# Altium schematic symbol library Altium_Box_Header_MP4C.SchLib: 79 symbols (part 1 of 2)
Pins are listed as number, name and electrical type; pins without a type are passive.

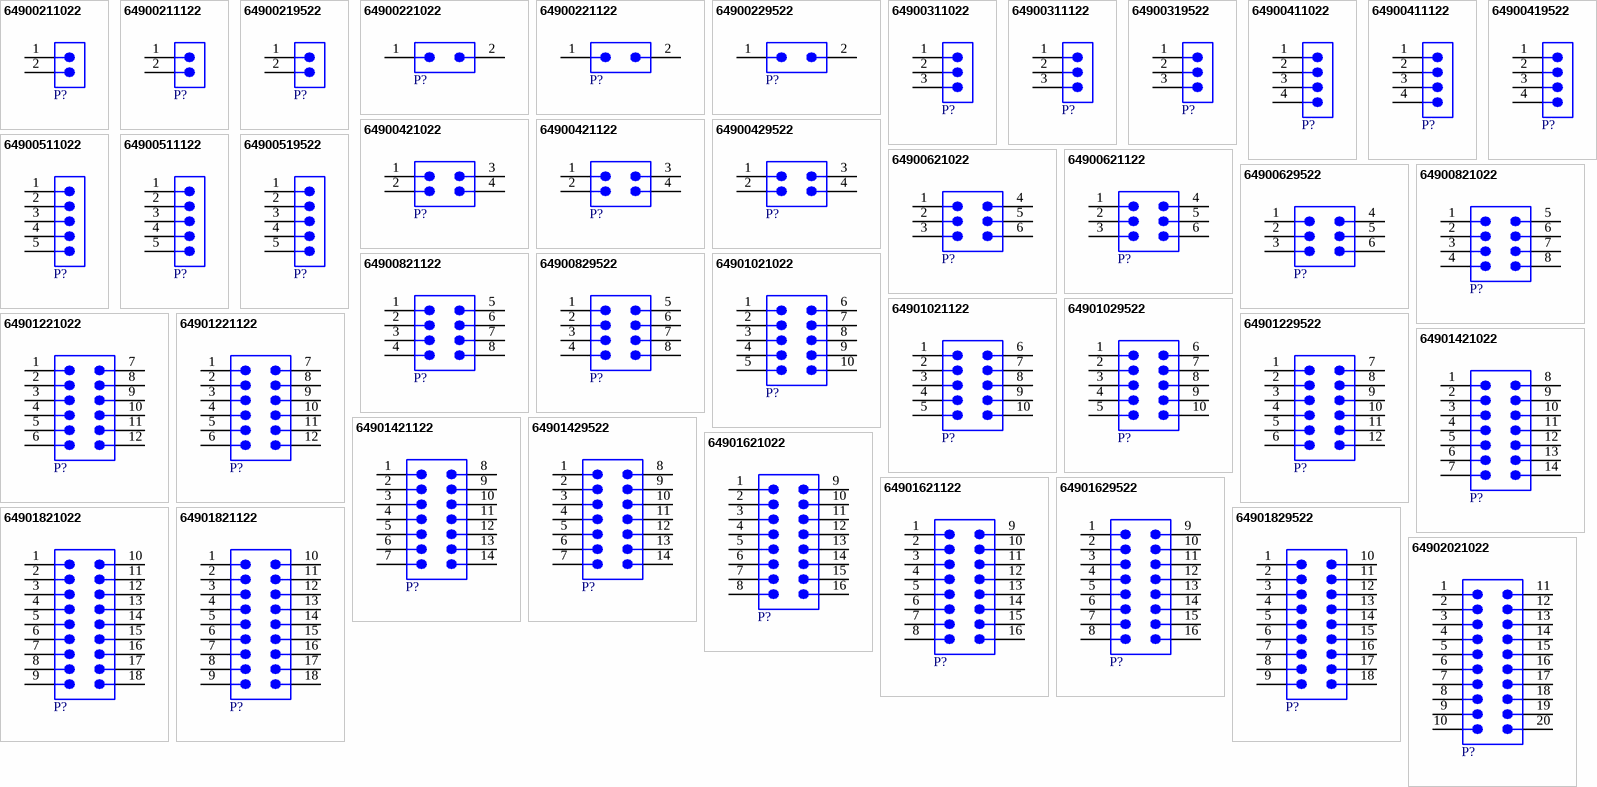
[diagram p0: symbols 64900211022 to 64902021022]

## 64900211022
designator P?  (value not drawn)
WR-MPC4 THT Male Right Angled Header with Mounting Flanges for Screw-in Retention, pitch 4.2mm, 2p; Manufacturer: Wurth Elektronik; Contact Resistance: 10mΩ; Insulation Resistance: 1000MΩ; Rated Current: 9A; Working Voltage: 600VAC; ComponentLink1Description: Datasheet; ComponentLink1URL: https://www.we-online.com/redexpert/spec/64900211022?ad; Manufacturer Part Number: 64900211022; Match Code: WR-MPC4; Mount: THT; Operating Temperature Max: 105°C; Operating Temperature Min: -40°C; Packaging: Tray; Gender: Male; Number of Pins: 2; Number of Rows: 1; Orientation: Right Angled; Pitch: 4.2mm; Supplier 1 URL: N/A; Supplier 2 URL: N/A; Supplier 3 URL: N/A; LCSC Part #: N/A; Package / Case: WR-MPC4; Supplier 1: Mouser; Supplier 1 Part Number: N/A; Supplier 2: Digi-Key; Supplier 2 Part Number: N/A; Supplier 3: thegioiic; Supplier 3 Part Number: N/A
footprint 64900211022
pins: 1, 2

## 64900211122
designator P?  (value not drawn)
WR-MPC4 THT Male Vertical Header, pitch 4.2mm, 2p; Manufacturer: Wurth Elektronik; Contact Resistance: 10mΩ; Insulation Resistance: 1000MΩ; Rated Current: 9A; Working Voltage: 600VAC; ComponentLink1Description: Datasheet; ComponentLink1URL: https://www.we-online.com/redexpert/spec/64900211122?ad; Manufacturer Part Number: 64900211122; Match Code: WR-MPC4; Mount: THT; Operating Temperature Max: 105°C; Operating Temperature Min: -40°C; Packaging: Tray; Gender: Male; Number of Pins: 2; Number of Rows: 1; Orientation: Vertical; Pitch: 4.2mm; Supplier 1 URL: N/A; Supplier 2 URL: N/A; Supplier 3 URL: N/A; LCSC Part #: N/A; Package / Case: WR-MPC4; Supplier 1: Mouser; Supplier 1 Part Number: N/A; Supplier 2: Digi-Key; Supplier 2 Part Number: N/A; Supplier 3: thegioiic; Supplier 3 Part Number: N/A
footprint 64900211122
pins: 1, 2

## 64900219522
designator P?  (value not drawn)
WR-MPC4 THT Male Right Angled Header, pitch 4.2mm, 2p; Manufacturer: Wurth Elektronik; Contact Resistance: 10mΩ; Insulation Resistance: 1000MΩ; Rated Current: 9A; Working Voltage: 600VAC; ComponentLink1Description: Datasheet; ComponentLink1URL: https://www.we-online.com/redexpert/spec/64900219522?ad; Manufacturer Part Number: 64900219522; Match Code: WR-MPC4; Mount: THT; Operating Temperature Max: 105°C; Operating Temperature Min: -40°C; Packaging: Tray; Gender: Male; Number of Pins: 2; Number of Rows: 1; Orientation: Right Angled; Pitch: 4.2mm; Supplier 1 URL: N/A; Supplier 2 URL: N/A; Supplier 3 URL: N/A; LCSC Part #: N/A; Package / Case: WR-MPC4; Supplier 1: Mouser; Supplier 1 Part Number: N/A; Supplier 2: Digi-Key; Supplier 2 Part Number: N/A; Supplier 3: thegioiic; Supplier 3 Part Number: N/A
footprint 64900219522
pins: 1, 2

## 64900221022
designator P?  (value not drawn)
WR-MPC4 THT Male Right Angled Header with Mounting Flanges for Screw-in Retention, pitch 4.2mm, 2p; Manufacturer: Wurth Elektronik; Contact Resistance: 10mΩ; Insulation Resistance: 1000MΩ; Rated Current: 9A; Working Voltage: 600VAC; ComponentLink1Description: Datasheet; ComponentLink1URL: https://www.we-online.com/redexpert/spec/64900221022?ad; Manufacturer Part Number: 64900221022; Match Code: WR-MPC4; Mount: THT; Operating Temperature Max: 105°C; Operating Temperature Min: -40°C; Packaging: Tray; Gender: Male; Number of Pins: 2; Number of Rows: 2; Orientation: Right Angled; Pitch: 4.2mm; Supplier 1 URL: N/A; Supplier 2 URL: N/A; Supplier 3 URL: N/A; LCSC Part #: N/A; Package / Case: WR-MPC4; Supplier 1: Mouser; Supplier 1 Part Number: N/A; Supplier 2: Digi-Key; Supplier 2 Part Number: N/A; Supplier 3: thegioiic; Supplier 3 Part Number: N/A
footprint 64900221022
pins: 1, 2

## 64900221122
designator P?  (value not drawn)
WR-MPC4 THT Male Vertical Header, pitch 4.2mm, 2p; Manufacturer: Wurth Elektronik; Contact Resistance: 10mΩ; Insulation Resistance: 1000MΩ; Rated Current: 9A; Working Voltage: 600VAC; ComponentLink1Description: Datasheet; ComponentLink1URL: https://www.we-online.com/redexpert/spec/64900221122?ad; Manufacturer Part Number: 64900221122; Match Code: WR-MPC4; Mount: THT; Operating Temperature Max: 105°C; Operating Temperature Min: -40°C; Packaging: Tray; Gender: Male; Number of Pins: 2; Number of Rows: 2; Orientation: Vertical; Pitch: 4.2mm; Supplier 1 URL: N/A; Supplier 2 URL: N/A; Supplier 3 URL: N/A; LCSC Part #: N/A; Package / Case: WR-MPC4; Supplier 1: Mouser; Supplier 1 Part Number: N/A; Supplier 2: Digi-Key; Supplier 2 Part Number: N/A; Supplier 3: thegioiic; Supplier 3 Part Number: N/A
footprint 64900221122
pins: 1, 2

## 64900229522
designator P?  (value not drawn)
WR-MPC4 THT Male Right Angled Header, pitch 4.2mm, 2p; Manufacturer: Wurth Elektronik; Contact Resistance: 10mΩ; Insulation Resistance: 1000MΩ; Rated Current: 9A; Working Voltage: 600VAC; ComponentLink1Description: Datasheet; ComponentLink1URL: https://www.we-online.com/redexpert/spec/64900229522?ad; Manufacturer Part Number: 64900229522; Match Code: WR-MPC4; Mount: THT; Operating Temperature Max: 105°C; Operating Temperature Min: -40°C; Packaging: Tray; Gender: Male; Number of Pins: 2; Number of Rows: 2; Orientation: Right Angled; Pitch: 4.2mm; Supplier 1 URL: N/A; Supplier 2 URL: N/A; Supplier 3 URL: N/A; LCSC Part #: N/A; Package / Case: WR-MPC4; Supplier 1: Mouser; Supplier 1 Part Number: N/A; Supplier 2: Digi-Key; Supplier 2 Part Number: N/A; Supplier 3: thegioiic; Supplier 3 Part Number: N/A
footprint 64900229522
pins: 1, 2

## 64900311022
designator P?  (value not drawn)
WR-MPC4 THT Male Right Angled Header with Mounting Flanges for Screw-in Retention, pitch 4.2mm, 3p; Manufacturer: Wurth Elektronik; Contact Resistance: 10mΩ; Insulation Resistance: 1000MΩ; Rated Current: 9A; Working Voltage: 600VAC; ComponentLink1Description: Datasheet; ComponentLink1URL: https://www.we-online.com/redexpert/spec/64900311022?ad; Manufacturer Part Number: 64900311022; Match Code: WR-MPC4; Mount: THT; Operating Temperature Max: 105°C; Operating Temperature Min: -40°C; Packaging: Tray; Gender: Male; Number of Pins: 3; Number of Rows: 1; Orientation: Right Angled; Pitch: 4.2mm; Supplier 1 URL: N/A; Supplier 2 URL: N/A; Supplier 3 URL: N/A; LCSC Part #: N/A; Package / Case: WR-MPC4; Supplier 1: Mouser; Supplier 1 Part Number: N/A; Supplier 2: Digi-Key; Supplier 2 Part Number: N/A; Supplier 3: thegioiic; Supplier 3 Part Number: N/A
footprint 64900311022
pins: 1, 2, 3

## 64900311122
designator P?  (value not drawn)
WR-MPC4 THT Male Vertical Header, pitch 4.2mm, 3p; Manufacturer: Wurth Elektronik; Contact Resistance: 10mΩ; Insulation Resistance: 1000MΩ; Rated Current: 9A; Working Voltage: 600VAC; ComponentLink1Description: Datasheet; ComponentLink1URL: https://www.we-online.com/redexpert/spec/64900311122?ad; Manufacturer Part Number: 64900311122; Match Code: WR-MPC4; Mount: THT; Operating Temperature Max: 105°C; Operating Temperature Min: -40°C; Packaging: Tray; Gender: Male; Number of Pins: 3; Number of Rows: 1; Orientation: Vertical; Pitch: 4.2mm; Supplier 1 URL: N/A; Supplier 2 URL: N/A; Supplier 3 URL: N/A; LCSC Part #: N/A; Package / Case: WR-MPC4; Supplier 1: Mouser; Supplier 1 Part Number: N/A; Supplier 2: Digi-Key; Supplier 2 Part Number: N/A; Supplier 3: thegioiic; Supplier 3 Part Number: N/A
footprint 64900311122
pins: 1, 2, 3

## 64900319522
designator P?  (value not drawn)
WR-MPC4 THT Male Right Angled Header, pitch 4.2mm, 3p; Manufacturer: Wurth Elektronik; Contact Resistance: 10mΩ; Insulation Resistance: 1000MΩ; Rated Current: 9A; Working Voltage: 600VAC; ComponentLink1Description: Datasheet; ComponentLink1URL: https://www.we-online.com/redexpert/spec/64900319522?ad; Manufacturer Part Number: 64900319522; Match Code: WR-MPC4; Mount: THT; Operating Temperature Max: 105°C; Operating Temperature Min: -40°C; Packaging: Tray; Gender: Male; Number of Pins: 3; Number of Rows: 1; Orientation: Right Angled; Pitch: 4.2mm; Supplier 1 URL: N/A; Supplier 2 URL: N/A; Supplier 3 URL: N/A; LCSC Part #: N/A; Package / Case: WR-MPC4; Supplier 1: Mouser; Supplier 1 Part Number: N/A; Supplier 2: Digi-Key; Supplier 2 Part Number: N/A; Supplier 3: thegioiic; Supplier 3 Part Number: N/A
footprint 64900319522
pins: 1, 2, 3

## 64900411022
designator P?  (value not drawn)
WR-MPC4 THT Male Right Angled Header with Mounting Flanges for Screw-in Retention, pitch 4.2mm, 4p; Manufacturer: Wurth Elektronik; Contact Resistance: 10mΩ; Insulation Resistance: 1000MΩ; Rated Current: 9A; Working Voltage: 600VAC; ComponentLink1Description: Datasheet; ComponentLink1URL: https://www.we-online.com/redexpert/spec/64900411022?ad; Manufacturer Part Number: 64900411022; Match Code: WR-MPC4; Mount: THT; Operating Temperature Max: 105°C; Operating Temperature Min: -40°C; Packaging: Tray; Gender: Male; Number of Pins: 4; Number of Rows: 1; Orientation: Right Angled; Pitch: 4.2mm; Supplier 1 URL: N/A; Supplier 2 URL: N/A; Supplier 3 URL: N/A; LCSC Part #: N/A; Package / Case: WR-MPC4; Supplier 1: Mouser; Supplier 1 Part Number: N/A; Supplier 2: Digi-Key; Supplier 2 Part Number: N/A; Supplier 3: thegioiic; Supplier 3 Part Number: N/A
footprint 64900411022
pins: 1, 2, 3, 4

## 64900411122
designator P?  (value not drawn)
WR-MPC4 THT Male Vertical Header, pitch 4.2mm, 4p; Manufacturer: Wurth Elektronik; Contact Resistance: 10mΩ; Insulation Resistance: 1000MΩ; Rated Current: 9A; Working Voltage: 600VAC; ComponentLink1Description: Datasheet; ComponentLink1URL: https://www.we-online.com/redexpert/spec/64900411122?ad; Manufacturer Part Number: 64900411122; Match Code: WR-MPC4; Mount: THT; Operating Temperature Max: 105°C; Operating Temperature Min: -40°C; Packaging: Tray; Gender: Male; Number of Pins: 4; Number of Rows: 1; Orientation: Vertical; Pitch: 4.2mm; Supplier 1 URL: N/A; Supplier 2 URL: N/A; Supplier 3 URL: N/A; LCSC Part #: N/A; Package / Case: WR-MPC4; Supplier 1: Mouser; Supplier 1 Part Number: N/A; Supplier 2: Digi-Key; Supplier 2 Part Number: N/A; Supplier 3: thegioiic; Supplier 3 Part Number: N/A
footprint 64900411122
pins: 1, 2, 3, 4

## 64900419522
designator P?  (value not drawn)
WR-MPC4 THT Male Right Angled Header, pitch 4.2mm, 4p; Manufacturer: Wurth Elektronik; Contact Resistance: 10mΩ; Insulation Resistance: 1000MΩ; Rated Current: 8A; Working Voltage: 600VAC; ComponentLink1Description: Datasheet; ComponentLink1URL: https://www.we-online.com/redexpert/spec/64900419522?ad; Manufacturer Part Number: 64900419522; Match Code: WR-MPC4; Mount: THT; Operating Temperature Max: 105°C; Operating Temperature Min: -40°C; Packaging: Tray; Gender: Male; Number of Pins: 4; Number of Rows: 1; Orientation: Right Angled; Pitch: 4.2mm; Supplier 1 URL: N/A; Supplier 2 URL: N/A; Supplier 3 URL: N/A; LCSC Part #: N/A; Package / Case: WR-MPC4; Supplier 1: Mouser; Supplier 1 Part Number: N/A; Supplier 2: Digi-Key; Supplier 2 Part Number: N/A; Supplier 3: thegioiic; Supplier 3 Part Number: N/A
footprint 64900419522
pins: 1, 2, 3, 4

## 64900421022
designator P?  (value not drawn)
WR-MPC4 THT Male Right Angled Header with Mounting Flanges for Screw-in Retention, pitch 4.2mm, 4p; Manufacturer: Wurth Elektronik; Contact Resistance: 10mΩ; Insulation Resistance: 1000MΩ; Rated Current: 8A; Working Voltage: 600VAC; ComponentLink1Description: Datasheet; ComponentLink1URL: https://www.we-online.com/redexpert/spec/64900421022?ad; Manufacturer Part Number: 64900421022; Match Code: WR-MPC4; Mount: THT; Operating Temperature Max: 105°C; Operating Temperature Min: -40°C; Packaging: Tray; Gender: Male; Number of Pins: 4; Number of Rows: 2; Orientation: Right Angled; Pitch: 4.2mm; Supplier 1 URL: N/A; Supplier 2 URL: N/A; Supplier 3 URL: N/A; LCSC Part #: N/A; Package / Case: WR-MPC4; Supplier 1: Mouser; Supplier 1 Part Number: N/A; Supplier 2: Digi-Key; Supplier 2 Part Number: N/A; Supplier 3: thegioiic; Supplier 3 Part Number: N/A
footprint 64900421022
pins: 1, 2, 3, 4

## 64900421122
designator P?  (value not drawn)
WR-MPC4 THT Male Vertical Header, pitch 4.2mm, 4p; Manufacturer: Wurth Elektronik; Contact Resistance: 10mΩ; Insulation Resistance: 1000MΩ; Rated Current: 8A; Working Voltage: 600VAC; ComponentLink1Description: Datasheet; ComponentLink1URL: https://www.we-online.com/redexpert/spec/64900421122?ad; Manufacturer Part Number: 64900421122; Match Code: WR-MPC4; Mount: THT; Operating Temperature Max: 105°C; Operating Temperature Min: -40°C; Packaging: Tray; Gender: Male; Number of Pins: 4; Number of Rows: 2; Orientation: Vertical; Pitch: 4.2mm; Supplier 1 URL: N/A; Supplier 2 URL: N/A; Supplier 3 URL: N/A; LCSC Part #: N/A; Package / Case: WR-MPC4; Supplier 1: Mouser; Supplier 1 Part Number: N/A; Supplier 2: Digi-Key; Supplier 2 Part Number: N/A; Supplier 3: thegioiic; Supplier 3 Part Number: N/A
footprint 64900421122
pins: 1, 2, 3, 4

## 64900429522
designator P?  (value not drawn)
WR-MPC4 THT Male Right Angled Header, pitch 4.2mm, 4p; Manufacturer: Wurth Elektronik; Contact Resistance: 10mΩ; Insulation Resistance: 1000MΩ; Rated Current: 8A; Working Voltage: 600VAC; ComponentLink1Description: Datasheet; ComponentLink1URL: https://www.we-online.com/redexpert/spec/64900429522?ad; Manufacturer Part Number: 64900429522; Match Code: WR-MPC4; Mount: THT; Operating Temperature Max: 105°C; Operating Temperature Min: -40°C; Packaging: Tray; Gender: Male; Number of Pins: 4; Number of Rows: 2; Orientation: Right Angled; Pitch: 4.2mm; Supplier 1 URL: N/A; Supplier 2 URL: N/A; Supplier 3 URL: N/A; LCSC Part #: N/A; Package / Case: WR-MPC4; Supplier 1: Mouser; Supplier 1 Part Number: N/A; Supplier 2: Digi-Key; Supplier 2 Part Number: N/A; Supplier 3: thegioiic; Supplier 3 Part Number: N/A
footprint 64900429522
pins: 1, 2, 3, 4

## 64900511022
designator P?  (value not drawn)
WR-MPC4 THT Male Right Angled Header with Mounting Flanges for Screw-in Retention, pitch 4.2mm, 5p; Manufacturer: Wurth Elektronik; Contact Resistance: 10mΩ; Insulation Resistance: 1000MΩ; Rated Current: 9A; Working Voltage: 600VAC; ComponentLink1Description: Datasheet; ComponentLink1URL: https://www.we-online.com/redexpert/spec/64900511022?ad; Manufacturer Part Number: 64900511022; Match Code: WR-MPC4; Mount: THT; Operating Temperature Max: 105°C; Operating Temperature Min: -40°C; Packaging: Tray; Gender: Male; Number of Pins: 5; Number of Rows: 1; Orientation: Right Angled; Pitch: 4.2mm; Supplier 1 URL: N/A; Supplier 2 URL: N/A; Supplier 3 URL: N/A; LCSC Part #: N/A; Package / Case: WR-MPC4; Supplier 1: Mouser; Supplier 1 Part Number: N/A; Supplier 2: Digi-Key; Supplier 2 Part Number: N/A; Supplier 3: thegioiic; Supplier 3 Part Number: N/A
footprint 64900511022
pins: 1, 2, 3, 4, 5

## 64900511122
designator P?  (value not drawn)
WR-MPC4 THT Male Vertical Header, pitch 4.2mm, 5p; Manufacturer: Wurth Elektronik; Contact Resistance: 10mΩ; Insulation Resistance: 1000MΩ; Rated Current: 9A; Working Voltage: 600VAC; ComponentLink1Description: Datasheet; ComponentLink1URL: https://www.we-online.com/redexpert/spec/64900511122?ad; Manufacturer Part Number: 64900511122; Match Code: WR-MPC4; Mount: THT; Operating Temperature Max: 105°C; Operating Temperature Min: -40°C; Packaging: Tray; Gender: Male; Number of Pins: 5; Number of Rows: 1; Orientation: Vertical; Pitch: 4.2mm; Supplier 1 URL: N/A; Supplier 2 URL: N/A; Supplier 3 URL: N/A; LCSC Part #: N/A; Package / Case: WR-MPC4; Supplier 1: Mouser; Supplier 1 Part Number: N/A; Supplier 2: Digi-Key; Supplier 2 Part Number: N/A; Supplier 3: thegioiic; Supplier 3 Part Number: N/A
footprint 64900511122
pins: 1, 2, 3, 4, 5

## 64900519522
designator P?  (value not drawn)
WR-MPC4 THT Male Right Angled Header, pitch 4.2mm, 5p; Manufacturer: Wurth Elektronik; Contact Resistance: 10mΩ; Insulation Resistance: 1000MΩ; Rated Current: 8A; Working Voltage: 600VAC; ComponentLink1Description: Datasheet; ComponentLink1URL: https://www.we-online.com/redexpert/spec/64900519522?ad; Manufacturer Part Number: 64900519522; Match Code: WR-MPC4; Mount: THT; Operating Temperature Max: 105°C; Operating Temperature Min: -40°C; Packaging: Tray; Gender: Male; Number of Pins: 5; Number of Rows: 1; Orientation: Right Angled; Pitch: 4.2mm; Supplier 1 URL: N/A; Supplier 2 URL: N/A; Supplier 3 URL: N/A; LCSC Part #: N/A; Package / Case: WR-MPC4; Supplier 1: Mouser; Supplier 1 Part Number: N/A; Supplier 2: Digi-Key; Supplier 2 Part Number: N/A; Supplier 3: thegioiic; Supplier 3 Part Number: N/A
footprint 64900519522
pins: 1, 2, 3, 4, 5

## 64900621022
designator P?  (value not drawn)
WR-MPC4 THT Male Right Angled Header with Mounting Flanges for Screw-in Retention, pitch 4.2mm, 6p; Manufacturer: Wurth Elektronik; Contact Resistance: 10mΩ; Insulation Resistance: 1000MΩ; Rated Current: 8A; Working Voltage: 600VAC; ComponentLink1Description: Datasheet; ComponentLink1URL: https://www.we-online.com/redexpert/spec/64900621022?ad; Manufacturer Part Number: 64900621022; Match Code: WR-MPC4; Mount: THT; Operating Temperature Max: 105°C; Operating Temperature Min: -40°C; Packaging: Tray; Gender: Male; Number of Pins: 6; Number of Rows: 2; Orientation: Right Angled; Pitch: 4.2mm; Supplier 1 URL: N/A; Supplier 2 URL: N/A; Supplier 3 URL: N/A; LCSC Part #: N/A; Package / Case: WR-MPC4; Supplier 1: Mouser; Supplier 1 Part Number: N/A; Supplier 2: Digi-Key; Supplier 2 Part Number: N/A; Supplier 3: thegioiic; Supplier 3 Part Number: N/A
footprint 64900621022
pins: 1, 2, 3, 4, 5, 6

## 64900621122
designator P?  (value not drawn)
WR-MPC4 THT Male Vertical Header, pitch 4.2mm, 6p; Manufacturer: Wurth Elektronik; Contact Resistance: 10mΩ; Insulation Resistance: 1000MΩ; Rated Current: 8A; Working Voltage: 600VAC; ComponentLink1Description: Datasheet; ComponentLink1URL: https://www.we-online.com/redexpert/spec/64900621122?ad; Manufacturer Part Number: 64900621122; Match Code: WR-MPC4; Mount: THT; Operating Temperature Max: 105°C; Operating Temperature Min: -40°C; Packaging: Tray; Gender: Male; Number of Pins: 6; Number of Rows: 2; Orientation: Vertical; Pitch: 4.2mm; Supplier 1 URL: N/A; Supplier 2 URL: N/A; Supplier 3 URL: N/A; LCSC Part #: N/A; Package / Case: WR-MPC4; Supplier 1: Mouser; Supplier 1 Part Number: N/A; Supplier 2: Digi-Key; Supplier 2 Part Number: N/A; Supplier 3: thegioiic; Supplier 3 Part Number: N/A
footprint 64900621122
pins: 1, 2, 3, 4, 5, 6

## 64900629522
designator P?  (value not drawn)
WR-MPC4 THT Male Right Angled Header, pitch 4.2mm, 6p; Manufacturer Part Number: HC-5557-2*3AW; Manufacturer: HCTL; Contact Resistance: 10mΩ; Insulation Resistance: 1000MΩ; Rated Current: 8A; Working Voltage: 600VAC; ComponentLink1Description: Datasheet; ComponentLink1URL: https://datasheet.lcsc.com/lcsc/2312190746_HCTL-HC-5557-2-3AW_C2845788.pdf?_gl=1*1ld6657*_ga*OTQ2NjYyNDI2LjE3MTU4NDQyNjY.*_ga_98M84MKSZH*MTcxNTg0NDI3Ny4xLjEuMTcxNTg0NDU5Mi40Ni4wLjA.; Match Code: WR-MPC4; Mount: THT; Operating Temperature Max: 105°C; Operating Temperature Min: -40°C; Packaging: Tray; Gender: Male; Number of Pins: 6; Number of Rows: 2; Orientation: Right Angled; Pitch: 4.2mm; Supplier 1 URL: N/A; Supplier 2 URL: N/A; Supplier 3 URL: N/A; LCSC Part #: C2845788; Package / Case: WR-MPC4; Supplier 1: Mouser; Supplier 1 Part Number: N/A; Supplier 2: Digi-Key; Supplier 2 Part Number: N/A; Supplier 3: thegioiic; Supplier 3 Part Number: N/A
footprint 64900629522
pins: 1, 2, 3, 4, 5, 6

## 64900821022
designator P?  (value not drawn)
WR-MPC4 THT Male Right Angled Header with Mounting Flanges for Screw-in Retention, pitch 4.2mm, 8p; Manufacturer: Wurth Elektronik; Contact Resistance: 10mΩ; Insulation Resistance: 1000MΩ; Rated Current: 7A; Working Voltage: 600VAC; ComponentLink1Description: Datasheet; ComponentLink1URL: https://www.we-online.com/redexpert/spec/64900821022?ad; Manufacturer Part Number: 64900821022; Match Code: WR-MPC4; Mount: THT; Operating Temperature Max: 105°C; Operating Temperature Min: -40°C; Packaging: Tray; Gender: Male; Number of Pins: 8; Number of Rows: 2; Orientation: Right Angled; Pitch: 4.2mm; Supplier 1 URL: N/A; Supplier 2 URL: N/A; Supplier 3 URL: N/A; LCSC Part #: N/A; Package / Case: WR-MPC4; Supplier 1: Mouser; Supplier 1 Part Number: N/A; Supplier 2: Digi-Key; Supplier 2 Part Number: N/A; Supplier 3: thegioiic; Supplier 3 Part Number: N/A
footprint 64900821022
pins: 1, 2, 3, 4, 5, 6, 7, 8

## 64900821122
designator P?  (value not drawn)
WR-MPC4 THT Male Vertical Header, pitch 4.2mm, 8p; Manufacturer: Wurth Elektronik; Contact Resistance: 10mΩ; Insulation Resistance: 1000MΩ; Rated Current: 7A; Working Voltage: 600VAC; ComponentLink1Description: Datasheet; ComponentLink1URL: https://www.we-online.com/redexpert/spec/64900821122?ad; Manufacturer Part Number: 64900821122; Match Code: WR-MPC4; Mount: THT; Operating Temperature Max: 105°C; Operating Temperature Min: -40°C; Packaging: Tray; Gender: Male; Number of Pins: 8; Number of Rows: 2; Orientation: Vertical; Pitch: 4.2mm; Supplier 1 URL: N/A; Supplier 2 URL: N/A; Supplier 3 URL: N/A; LCSC Part #: N/A; Package / Case: WR-MPC4; Supplier 1: Mouser; Supplier 1 Part Number: N/A; Supplier 2: Digi-Key; Supplier 2 Part Number: N/A; Supplier 3: thegioiic; Supplier 3 Part Number: N/A
footprint 64900821122
pins: 1, 2, 3, 4, 5, 6, 7, 8

## 64900829522
designator P?  (value not drawn)
WR-MPC4 THT Male Right Angled Header, pitch 4.2mm, 8p; Manufacturer: Wurth Elektronik; Contact Resistance: 10mΩ; Insulation Resistance: 1000MΩ; Rated Current: 7A; Working Voltage: 600VAC; ComponentLink1Description: Datasheet; ComponentLink1URL: https://www.we-online.com/redexpert/spec/64900829522?ad; Manufacturer Part Number: 64900829522; Match Code: WR-MPC4; Mount: THT; Operating Temperature Max: 105°C; Operating Temperature Min: -40°C; Packaging: Tray; Gender: Male; Number of Pins: 8; Number of Rows: 2; Orientation: Right Angled; Pitch: 4.2mm; Supplier 1 URL: N/A; Supplier 2 URL: N/A; Supplier 3 URL: N/A; LCSC Part #: N/A; Package / Case: WR-MPC4; Supplier 1: Mouser; Supplier 1 Part Number: N/A; Supplier 2: Digi-Key; Supplier 2 Part Number: N/A; Supplier 3: thegioiic; Supplier 3 Part Number: N/A
footprint 64900829522
pins: 1, 2, 3, 4, 5, 6, 7, 8

## 64901021022
designator P?  (value not drawn)
WR-MPC4 THT Male Right Angled Header with Mounting Flanges for Screw-in Retention, pitch 4.2mm, 10p; Manufacturer: Wurth Elektronik; Contact Resistance: 10mΩ; Insulation Resistance: 1000MΩ; Rated Current: 7A; Working Voltage: 600VAC; ComponentLink1Description: Datasheet; ComponentLink1URL: https://www.we-online.com/redexpert/spec/64901021022?ad; Manufacturer Part Number: 64901021022; Match Code: WR-MPC4; Mount: THT; Operating Temperature Max: 105°C; Operating Temperature Min: -40°C; Packaging: Tray; Gender: Male; Number of Pins: 10; Number of Rows: 2; Orientation: Right Angled; Pitch: 4.2mm; Supplier 1 URL: N/A; Supplier 2 URL: N/A; Supplier 3 URL: N/A; LCSC Part #: N/A; Package / Case: WR-MPC4; Supplier 1: Mouser; Supplier 1 Part Number: N/A; Supplier 2: Digi-Key; Supplier 2 Part Number: N/A; Supplier 3: thegioiic; Supplier 3 Part Number: N/A
footprint 64901021022
pins: 1, 2, 3, 4, 5, 6, 7, 8, 9, 10

## 64901021122
designator P?  (value not drawn)
WR-MPC4 THT Male Vertical Header, pitch 4.2mm, 10p; Manufacturer: Wurth Elektronik; Contact Resistance: 10mΩ; Insulation Resistance: 1000MΩ; Rated Current: 7A; Working Voltage: 600VAC; ComponentLink1Description: Datasheet; ComponentLink1URL: https://www.we-online.com/redexpert/spec/64901021122?ad; Manufacturer Part Number: 64901021122; Match Code: WR-MPC4; Mount: THT; Operating Temperature Max: 105°C; Operating Temperature Min: -40°C; Packaging: Tray; Gender: Male; Number of Pins: 10; Number of Rows: 2; Orientation: Vertical; Pitch: 4.2mm; Supplier 1 URL: N/A; Supplier 2 URL: N/A; Supplier 3 URL: N/A; LCSC Part #: N/A; Package / Case: WR-MPC4; Supplier 1: Mouser; Supplier 1 Part Number: N/A; Supplier 2: Digi-Key; Supplier 2 Part Number: N/A; Supplier 3: thegioiic; Supplier 3 Part Number: N/A
footprint 64901021122
pins: 1, 2, 3, 4, 5, 6, 7, 8, 9, 10

## 64901029522
designator P?  (value not drawn)
WR-MPC4 THT Male Right Angled Header, pitch 4.2mm, 10p; Manufacturer: Wurth Elektronik; Contact Resistance: 10mΩ; Insulation Resistance: 1000MΩ; Rated Current: 7A; Working Voltage: 600VAC; ComponentLink1Description: Datasheet; ComponentLink1URL: https://www.we-online.com/redexpert/spec/64901029522?ad; Manufacturer Part Number: 64901029522; Match Code: WR-MPC4; Mount: THT; Operating Temperature Max: 105°C; Operating Temperature Min: -40°C; Packaging: Tray; Gender: Male; Number of Pins: 10; Number of Rows: 2; Orientation: Right Angled; Pitch: 4.2mm; Supplier 1 URL: N/A; Supplier 2 URL: N/A; Supplier 3 URL: N/A; LCSC Part #: N/A; Package / Case: WR-MPC4; Supplier 1: Mouser; Supplier 1 Part Number: N/A; Supplier 2: Digi-Key; Supplier 2 Part Number: N/A; Supplier 3: thegioiic; Supplier 3 Part Number: N/A
footprint 64901029522
pins: 1, 2, 3, 4, 5, 6, 7, 8, 9, 10

## 64901221022
designator P?  (value not drawn)
WR-MPC4 THT Male Right Angled Header with Mounting Flanges for Screw-in Retention, pitch 4.2mm, 12p; Manufacturer: Wurth Elektronik; Contact Resistance: 10mΩ; Insulation Resistance: 1000MΩ; Rated Current: 6A; Working Voltage: 600VAC; ComponentLink1Description: Datasheet; ComponentLink1URL: https://www.we-online.com/redexpert/spec/64901221022?ad; Manufacturer Part Number: 64901221022; Match Code: WR-MPC4; Mount: THT; Operating Temperature Max: 105°C; Operating Temperature Min: -40°C; Packaging: Tray; Gender: Male; Number of Pins: 12; Number of Rows: 2; Orientation: Right Angled; Pitch: 4.2mm; Supplier 1 URL: N/A; Supplier 2 URL: N/A; Supplier 3 URL: N/A; LCSC Part #: N/A; Package / Case: WR-MPC4; Supplier 1: Mouser; Supplier 1 Part Number: N/A; Supplier 2: Digi-Key; Supplier 2 Part Number: N/A; Supplier 3: thegioiic; Supplier 3 Part Number: N/A
footprint 64901221022
pins: 1, 2, 3, 4, 5, 6, 7, 8, 9, 10, 11, 12

## 64901221122
designator P?  (value not drawn)
WR-MPC4 THT Male Vertical Header, pitch 4.2mm, 12p; Manufacturer: Wurth Elektronik; Contact Resistance: 10mΩ; Insulation Resistance: 1000MΩ; Rated Current: 6A; Working Voltage: 600VAC; ComponentLink1Description: Datasheet; ComponentLink1URL: https://www.we-online.com/redexpert/spec/64901221122?ad; Manufacturer Part Number: 64901221122; Match Code: WR-MPC4; Mount: THT; Operating Temperature Max: 105°C; Operating Temperature Min: -40°C; Packaging: Tray; Gender: Male; Number of Pins: 12; Number of Rows: 2; Orientation: Vertical; Pitch: 4.2mm; Supplier 1 URL: N/A; Supplier 2 URL: N/A; Supplier 3 URL: N/A; LCSC Part #: N/A; Package / Case: WR-MPC4; Supplier 1: Mouser; Supplier 1 Part Number: N/A; Supplier 2: Digi-Key; Supplier 2 Part Number: N/A; Supplier 3: thegioiic; Supplier 3 Part Number: N/A
footprint 64901221122
pins: 1, 2, 3, 4, 5, 6, 7, 8, 9, 10, 11, 12

## 64901229522
designator P?  (value not drawn)
WR-MPC4 THT Male Right Angled Header, pitch 4.2mm, 12p; Manufacturer: Wurth Elektronik; Contact Resistance: 10mΩ; Insulation Resistance: 1000MΩ; Rated Current: 7A; Working Voltage: 600VAC; ComponentLink1Description: Datasheet; ComponentLink1URL: https://www.we-online.com/redexpert/spec/64901229522?ad; Manufacturer Part Number: 64901229522; Match Code: WR-MPC4; Mount: THT; Operating Temperature Max: 105°C; Operating Temperature Min: -40°C; Packaging: Tray; Gender: Male; Number of Pins: 12; Number of Rows: 2; Orientation: Right Angled; Pitch: 4.2mm; Supplier 1 URL: N/A; Supplier 2 URL: N/A; Supplier 3 URL: N/A; LCSC Part #: N/A; Package / Case: WR-MPC4; Supplier 1: Mouser; Supplier 1 Part Number: N/A; Supplier 2: Digi-Key; Supplier 2 Part Number: N/A; Supplier 3: thegioiic; Supplier 3 Part Number: N/A
footprint 64901229522
pins: 1, 2, 3, 4, 5, 6, 7, 8, 9, 10, 11, 12

## 64901421022
designator P?  (value not drawn)
WR-MPC4 THT Male Right Angled Header with Mounting Flanges for Screw-in Retention, pitch 4.2mm, 14p; Manufacturer: Wurth Elektronik; Contact Resistance: 10mΩ; Insulation Resistance: 1000MΩ; Rated Current: 6A; Working Voltage: 600VAC; ComponentLink1Description: Datasheet; ComponentLink1URL: https://www.we-online.com/redexpert/spec/64901421022?ad; Manufacturer Part Number: 64901421022; Match Code: WR-MPC4; Mount: THT; Operating Temperature Max: 105°C; Operating Temperature Min: -40°C; Packaging: Tray; Gender: Male; Number of Pins: 14; Number of Rows: 2; Orientation: Right Angled; Pitch: 4.2mm; Supplier 1 URL: N/A; Supplier 2 URL: N/A; Supplier 3 URL: N/A; LCSC Part #: N/A; Package / Case: WR-MPC4; Supplier 1: Mouser; Supplier 1 Part Number: N/A; Supplier 2: Digi-Key; Supplier 2 Part Number: N/A; Supplier 3: thegioiic; Supplier 3 Part Number: N/A
footprint 64901421022
pins: 1, 2, 3, 4, 5, 6, 7, 8, 9, 10, 11, 12, 13, 14

## 64901421122
designator P?  (value not drawn)
WR-MPC4 THT Male Vertical Header, pitch 4.2mm, 14p; Manufacturer: Wurth Elektronik; Contact Resistance: 10mΩ; Insulation Resistance: 1000MΩ; Rated Current: 6A; Working Voltage: 600VAC; ComponentLink1Description: Datasheet; ComponentLink1URL: https://www.we-online.com/redexpert/spec/64901421122?ad; Manufacturer Part Number: 64901421122; Match Code: WR-MPC4; Mount: THT; Operating Temperature Max: 105°C; Operating Temperature Min: -40°C; Packaging: Tray; Gender: Male; Number of Pins: 14; Number of Rows: 2; Orientation: Vertical; Pitch: 4.2mm; Supplier 1 URL: N/A; Supplier 2 URL: N/A; Supplier 3 URL: N/A; LCSC Part #: N/A; Package / Case: WR-MPC4; Supplier 1: Mouser; Supplier 1 Part Number: N/A; Supplier 2: Digi-Key; Supplier 2 Part Number: N/A; Supplier 3: thegioiic; Supplier 3 Part Number: N/A
footprint 64901421122
pins: 1, 2, 3, 4, 5, 6, 7, 8, 9, 10, 11, 12, 13, 14

## 64901429522
designator P?  (value not drawn)
WR-MPC4 THT Male Right Angled Header, pitch 4.2mm, 14p; Manufacturer: Wurth Elektronik; Contact Resistance: 10mΩ; Insulation Resistance: 1000MΩ; Rated Current: 7A; Working Voltage: 600VAC; ComponentLink1Description: Datasheet; ComponentLink1URL: https://www.we-online.com/redexpert/spec/64901429522?ad; Manufacturer Part Number: 64901429522; Match Code: WR-MPC4; Mount: THT; Operating Temperature Max: 105°C; Operating Temperature Min: -40°C; Packaging: Tray; Gender: Male; Number of Pins: 14; Number of Rows: 2; Orientation: Right Angled; Pitch: 4.2mm; Supplier 1 URL: N/A; Supplier 2 URL: N/A; Supplier 3 URL: N/A; LCSC Part #: N/A; Package / Case: WR-MPC4; Supplier 1: Mouser; Supplier 1 Part Number: N/A; Supplier 2: Digi-Key; Supplier 2 Part Number: N/A; Supplier 3: thegioiic; Supplier 3 Part Number: N/A
footprint 64901429522
pins: 1, 2, 3, 4, 5, 6, 7, 8, 9, 10, 11, 12, 13, 14

## 64901621022
designator P?  (value not drawn)
WR-MPC4 THT Male Right Angled Header with Mounting Flanges for Screw-in Retention, pitch 4.2mm, 16p; Manufacturer: Wurth Elektronik; Contact Resistance: 10mΩ; Insulation Resistance: 1000MΩ; Rated Current: 6A; Working Voltage: 600VAC; ComponentLink1Description: Datasheet; ComponentLink1URL: https://www.we-online.com/redexpert/spec/64901621022?ad; Manufacturer Part Number: 64901621022; Match Code: WR-MPC4; Mount: THT; Operating Temperature Max: 105°C; Operating Temperature Min: -40°C; Packaging: Tray; Gender: Male; Number of Pins: 16; Number of Rows: 2; Orientation: Right Angled; Pitch: 4.2mm; Supplier 1 URL: N/A; Supplier 2 URL: N/A; Supplier 3 URL: N/A; LCSC Part #: N/A; Package / Case: WR-MPC4; Supplier 1: Mouser; Supplier 1 Part Number: N/A; Supplier 2: Digi-Key; Supplier 2 Part Number: N/A; Supplier 3: thegioiic; Supplier 3 Part Number: N/A
footprint 64901621022
pins: 1, 2, 3, 4, 5, 6, 7, 8, 9, 10, 11, 12, 13, 14, 15, 16

## 64901621122
designator P?  (value not drawn)
WR-MPC4 THT Male Vertical Header, pitch 4.2mm, 16p; Manufacturer: Wurth Elektronik; Contact Resistance: 10mΩ; Insulation Resistance: 1000MΩ; Rated Current: 6A; Working Voltage: 600VAC; ComponentLink1Description: Datasheet; ComponentLink1URL: https://www.we-online.com/redexpert/spec/64901621122?ad; Manufacturer Part Number: 64901621122; Match Code: WR-MPC4; Mount: THT; Operating Temperature Max: 105°C; Operating Temperature Min: -40°C; Packaging: Tray; Gender: Male; Number of Pins: 16; Number of Rows: 2; Orientation: Vertical; Pitch: 4.2mm; Supplier 1 URL: N/A; Supplier 2 URL: N/A; Supplier 3 URL: N/A; LCSC Part #: N/A; Package / Case: WR-MPC4; Supplier 1: Mouser; Supplier 1 Part Number: N/A; Supplier 2: Digi-Key; Supplier 2 Part Number: N/A; Supplier 3: thegioiic; Supplier 3 Part Number: N/A
footprint 64901621122
pins: 1, 2, 3, 4, 5, 6, 7, 8, 9, 10, 11, 12, 13, 14, 15, 16

## 64901629522
designator P?  (value not drawn)
WR-MPC4 THT Male Right Angled Header, pitch 4.2mm, 16p; Manufacturer: Wurth Elektronik; Contact Resistance: 10mΩ; Insulation Resistance: 1000MΩ; Rated Current: 7A; Working Voltage: 600VAC; ComponentLink1Description: Datasheet; ComponentLink1URL: https://www.we-online.com/redexpert/spec/64901629522?ad; Manufacturer Part Number: 64901629522; Match Code: WR-MPC4; Mount: THT; Operating Temperature Max: 105°C; Operating Temperature Min: -40°C; Packaging: Tray; Gender: Male; Number of Pins: 16; Number of Rows: 2; Orientation: Right Angled; Pitch: 4.2mm; Supplier 1 URL: N/A; Supplier 2 URL: N/A; Supplier 3 URL: N/A; LCSC Part #: N/A; Package / Case: WR-MPC4; Supplier 1: Mouser; Supplier 1 Part Number: N/A; Supplier 2: Digi-Key; Supplier 2 Part Number: N/A; Supplier 3: thegioiic; Supplier 3 Part Number: N/A
footprint 64901629522
pins: 1, 2, 3, 4, 5, 6, 7, 8, 9, 10, 11, 12, 13, 14, 15, 16

## 64901821022
designator P?  (value not drawn)
WR-MPC4 THT Male Right Angled Header with Mounting Flanges for Screw-in Retention, pitch 4.2mm, 18p; Manufacturer: Wurth Elektronik; Contact Resistance: 10mΩ; Insulation Resistance: 1000MΩ; Rated Current: 6A; Working Voltage: 600VAC; ComponentLink1Description: Datasheet; ComponentLink1URL: https://www.we-online.com/redexpert/spec/64901821022?ad; Manufacturer Part Number: 64901821022; Match Code: WR-MPC4; Mount: THT; Operating Temperature Max: 105°C; Operating Temperature Min: -40°C; Packaging: Tray; Gender: Male; Number of Pins: 18; Number of Rows: 2; Orientation: Right Angled; Pitch: 4.2mm; Supplier 1 URL: N/A; Supplier 2 URL: N/A; Supplier 3 URL: N/A; LCSC Part #: N/A; Package / Case: WR-MPC4; Supplier 1: Mouser; Supplier 1 Part Number: N/A; Supplier 2: Digi-Key; Supplier 2 Part Number: N/A; Supplier 3: thegioiic; Supplier 3 Part Number: N/A
footprint 64901821022
pins: 1, 2, 3, 4, 5, 6, 7, 8, 9, 10, 11, 12, 13, 14, 15, 16, 17, 18

## 64901821122
designator P?  (value not drawn)
WR-MPC4 THT Male Vertical Header, pitch 4.2mm, 18p; Manufacturer: Wurth Elektronik; Contact Resistance: 10mΩ; Insulation Resistance: 1000MΩ; Rated Current: 6A; Working Voltage: 600VAC; ComponentLink1Description: Datasheet; ComponentLink1URL: https://www.we-online.com/redexpert/spec/64901821122?ad; Manufacturer Part Number: 64901821122; Match Code: WR-MPC4; Mount: THT; Operating Temperature Max: 105°C; Operating Temperature Min: -40°C; Packaging: Tray; Gender: Male; Number of Pins: 18; Number of Rows: 2; Orientation: Vertical; Pitch: 4.2mm; Supplier 1 URL: N/A; Supplier 2 URL: N/A; Supplier 3 URL: N/A; LCSC Part #: N/A; Package / Case: WR-MPC4; Supplier 1: Mouser; Supplier 1 Part Number: N/A; Supplier 2: Digi-Key; Supplier 2 Part Number: N/A; Supplier 3: thegioiic; Supplier 3 Part Number: N/A
footprint 64901821122
pins: 1, 2, 3, 4, 5, 6, 7, 8, 9, 10, 11, 12, 13, 14, 15, 16, 17, 18

## 64901829522
designator P?  (value not drawn)
WR-MPC4 THT Male Right Angled Header, pitch 4.2mm, 18p; Manufacturer: Wurth Elektronik; Contact Resistance: 10mΩ; Insulation Resistance: 1000MΩ; Rated Current: 7A; Working Voltage: 600VAC; ComponentLink1Description: Datasheet; ComponentLink1URL: https://www.we-online.com/redexpert/spec/64901829522?ad; Manufacturer Part Number: 64901829522; Match Code: WR-MPC4; Mount: THT; Operating Temperature Max: 105°C; Operating Temperature Min: -40°C; Packaging: Tray; Gender: Male; Number of Pins: 18; Number of Rows: 2; Orientation: Right Angled; Pitch: 4.2mm; Supplier 1 URL: N/A; Supplier 2 URL: N/A; Supplier 3 URL: N/A; LCSC Part #: N/A; Package / Case: WR-MPC4; Supplier 1: Mouser; Supplier 1 Part Number: N/A; Supplier 2: Digi-Key; Supplier 2 Part Number: N/A; Supplier 3: thegioiic; Supplier 3 Part Number: N/A
footprint 64901829522
pins: 1, 2, 3, 4, 5, 6, 7, 8, 9, 10, 11, 12, 13, 14, 15, 16, 17, 18

## 64902021022
designator P?  (value not drawn)
WR-MPC4 THT Male Right Angled Header with Mounting Flanges for Screw-in Retention, pitch 4.2mm, 20p; Manufacturer: Wurth Elektronik; Contact Resistance: 10mΩ; Insulation Resistance: 1000MΩ; Rated Current: 6A; Working Voltage: 600VAC; ComponentLink1Description: Datasheet; ComponentLink1URL: https://www.we-online.com/redexpert/spec/64902021022?ad; Manufacturer Part Number: 64902021022; Match Code: WR-MPC4; Mount: THT; Operating Temperature Max: 105°C; Operating Temperature Min: -40°C; Packaging: Tray; Gender: Male; Number of Pins: 20; Number of Rows: 2; Orientation: Right Angled; Pitch: 4.2mm; Supplier 1 URL: N/A; Supplier 2 URL: N/A; Supplier 3 URL: N/A; LCSC Part #: N/A; Package / Case: WR-MPC4; Supplier 1: Mouser; Supplier 1 Part Number: N/A; Supplier 2: Digi-Key; Supplier 2 Part Number: N/A; Supplier 3: thegioiic; Supplier 3 Part Number: N/A
footprint 64902021022
pins: 1, 2, 3, 4, 5, 6, 7, 8, 9, 10, 11, 12, 13, 14, 15, 16, 17, 18, 19, 20

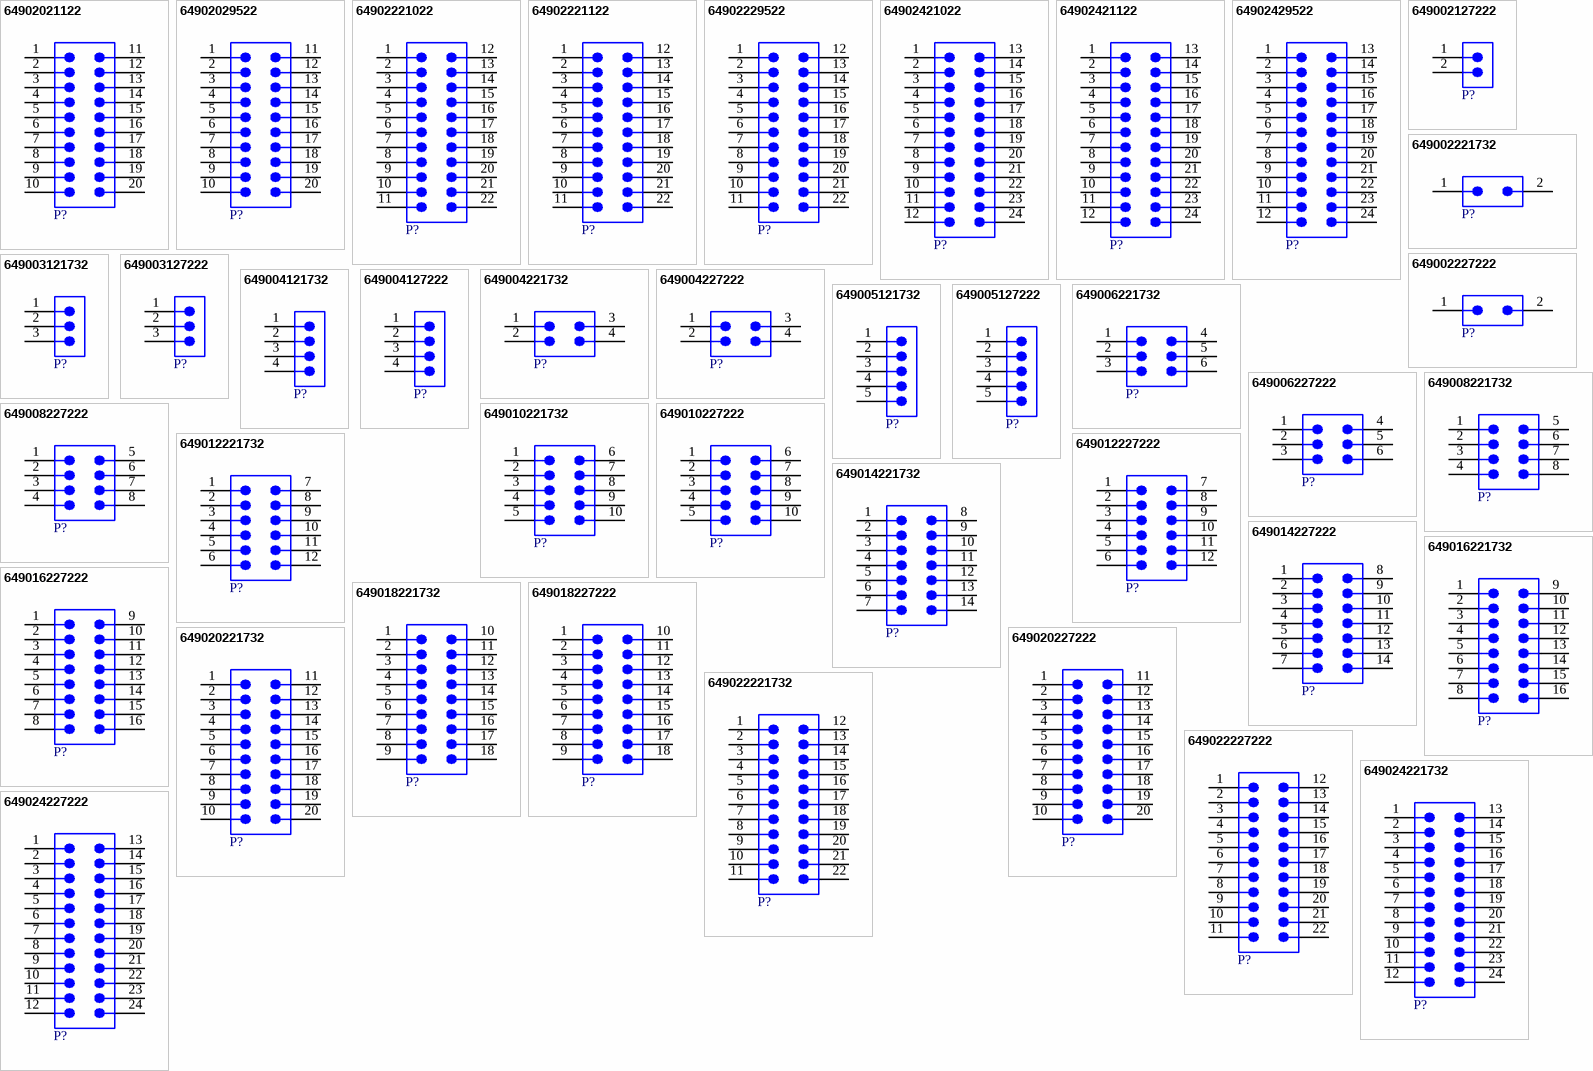
[diagram p1: symbols 64902021122 to 649024227222]

## 64902021122
designator P?  (value not drawn)
WR-MPC4 THT Male Vertical Header, pitch 4.2mm, 20p; Manufacturer: Wurth Elektronik; Contact Resistance: 10mΩ; Insulation Resistance: 1000MΩ; Rated Current: 6A; Working Voltage: 600VAC; ComponentLink1Description: Datasheet; ComponentLink1URL: https://www.we-online.com/redexpert/spec/64902021122?ad; Manufacturer Part Number: 64902021122; Match Code: WR-MPC4; Mount: THT; Operating Temperature Max: 105°C; Operating Temperature Min: -40°C; Packaging: Tray; Gender: Male; Number of Pins: 20; Number of Rows: 2; Orientation: Vertical; Pitch: 4.2mm; Supplier 1 URL: N/A; Supplier 2 URL: N/A; Supplier 3 URL: N/A; LCSC Part #: N/A; Package / Case: WR-MPC4; Supplier 1: Mouser; Supplier 1 Part Number: N/A; Supplier 2: Digi-Key; Supplier 2 Part Number: N/A; Supplier 3: thegioiic; Supplier 3 Part Number: N/A
footprint 64902021122
pins: 1, 2, 3, 4, 5, 6, 7, 8, 9, 10, 11, 12, 13, 14, 15, 16, 17, 18, 19, 20

## 64902029522
designator P?  (value not drawn)
WR-MPC4 THT Male Right Angled Header, pitch 4.2mm, 20p; Manufacturer: Wurth Elektronik; Contact Resistance: 10mΩ; Insulation Resistance: 1000MΩ; Rated Current: 7A; Working Voltage: 600VAC; ComponentLink1Description: Datasheet; ComponentLink1URL: https://www.we-online.com/redexpert/spec/64902029522?ad; Manufacturer Part Number: 64902029522; Match Code: WR-MPC4; Mount: THT; Operating Temperature Max: 105°C; Operating Temperature Min: -40°C; Packaging: Tray; Gender: Male; Number of Pins: 20; Number of Rows: 2; Orientation: Right Angled; Pitch: 4.2mm; Supplier 1 URL: N/A; Supplier 2 URL: N/A; Supplier 3 URL: N/A; LCSC Part #: N/A; Package / Case: WR-MPC4; Supplier 1: Mouser; Supplier 1 Part Number: N/A; Supplier 2: Digi-Key; Supplier 2 Part Number: N/A; Supplier 3: thegioiic; Supplier 3 Part Number: N/A
footprint 64902029522
pins: 1, 2, 3, 4, 5, 6, 7, 8, 9, 10, 11, 12, 13, 14, 15, 16, 17, 18, 19, 20

## 64902221022
designator P?  (value not drawn)
WR-MPC4 THT Male Right Angled Header with Mounting Flanges for Screw-in Retention, pitch 4.2mm, 22p; Manufacturer: Wurth Elektronik; Contact Resistance: 10mΩ; Insulation Resistance: 1000MΩ; Rated Current: 6A; Working Voltage: 600VAC; ComponentLink1Description: Datasheet; ComponentLink1URL: https://www.we-online.com/redexpert/spec/64902221022?ad; Manufacturer Part Number: 64902221022; Match Code: WR-MPC4; Mount: THT; Operating Temperature Max: 105°C; Operating Temperature Min: -40°C; Packaging: Tray; Gender: Male; Number of Pins: 22; Number of Rows: 2; Orientation: Right Angled; Pitch: 4.2mm; Supplier 1 URL: N/A; Supplier 2 URL: N/A; Supplier 3 URL: N/A; LCSC Part #: N/A; Package / Case: WR-MPC4; Supplier 1: Mouser; Supplier 1 Part Number: N/A; Supplier 2: Digi-Key; Supplier 2 Part Number: N/A; Supplier 3: thegioiic; Supplier 3 Part Number: N/A
footprint 64902221022
pins: 1, 2, 3, 4, 5, 6, 7, 8, 9, 10, 11, 12, 13, 14, 15, 16, 17, 18, 19, 20, 21, 22

## 64902221122
designator P?  (value not drawn)
WR-MPC4 THT Male Vertical Header, pitch 4.2mm, 22p; Manufacturer: Wurth Elektronik; Contact Resistance: 10mΩ; Insulation Resistance: 1000MΩ; Rated Current: 6A; Working Voltage: 600VAC; ComponentLink1Description: Datasheet; ComponentLink1URL: https://www.we-online.com/redexpert/spec/64902221122?ad; Manufacturer Part Number: 64902221122; Match Code: WR-MPC4; Mount: THT; Operating Temperature Max: 105°C; Operating Temperature Min: -40°C; Packaging: Tray; Gender: Male; Number of Pins: 22; Number of Rows: 2; Orientation: Vertical; Pitch: 4.2mm; Supplier 1 URL: N/A; Supplier 2 URL: N/A; Supplier 3 URL: N/A; LCSC Part #: N/A; Package / Case: WR-MPC4; Supplier 1: Mouser; Supplier 1 Part Number: N/A; Supplier 2: Digi-Key; Supplier 2 Part Number: N/A; Supplier 3: thegioiic; Supplier 3 Part Number: N/A
footprint 64902221122
pins: 1, 2, 3, 4, 5, 6, 7, 8, 9, 10, 11, 12, 13, 14, 15, 16, 17, 18, 19, 20, 21, 22

## 64902229522
designator P?  (value not drawn)
WR-MPC4 THT Male Right Angled Header, pitch 4.2mm, 22p; Manufacturer: Wurth Elektronik; Contact Resistance: 10mΩ; Insulation Resistance: 1000MΩ; Rated Current: 7A; Working Voltage: 600VAC; ComponentLink1Description: Datasheet; ComponentLink1URL: https://www.we-online.com/redexpert/spec/64902229522?ad; Manufacturer Part Number: 64902229522; Match Code: WR-MPC4; Mount: THT; Operating Temperature Max: 105°C; Operating Temperature Min: -40°C; Packaging: Tray; Gender: Male; Number of Pins: 22; Number of Rows: 2; Orientation: Right Angled; Pitch: 4.2mm; Supplier 1 URL: N/A; Supplier 2 URL: N/A; Supplier 3 URL: N/A; LCSC Part #: N/A; Package / Case: WR-MPC4; Supplier 1: Mouser; Supplier 1 Part Number: N/A; Supplier 2: Digi-Key; Supplier 2 Part Number: N/A; Supplier 3: thegioiic; Supplier 3 Part Number: N/A
footprint 64902229522
pins: 1, 2, 3, 4, 5, 6, 7, 8, 9, 10, 11, 12, 13, 14, 15, 16, 17, 18, 19, 20, 21, 22

## 64902421022
designator P?  (value not drawn)
WR-MPC4 THT Male Right Angled Header with Mounting Flanges for Screw-in Retention, pitch 4.2mm, 24p; Manufacturer: Wurth Elektronik; Contact Resistance: 10mΩ; Insulation Resistance: 1000MΩ; Rated Current: 6A; Working Voltage: 600VAC; ComponentLink1Description: Datasheet; ComponentLink1URL: https://www.we-online.com/redexpert/spec/64902421022?ad; Manufacturer Part Number: 64902421022; Match Code: WR-MPC4; Mount: THT; Operating Temperature Max: 105°C; Operating Temperature Min: -40°C; Packaging: Tray; Gender: Male; Number of Pins: 24; Number of Rows: 2; Orientation: Right Angled; Pitch: 4.2mm; Supplier 1 URL: N/A; Supplier 2 URL: N/A; Supplier 3 URL: N/A; LCSC Part #: N/A; Package / Case: WR-MPC4; Supplier 1: Mouser; Supplier 1 Part Number: N/A; Supplier 2: Digi-Key; Supplier 2 Part Number: N/A; Supplier 3: thegioiic; Supplier 3 Part Number: N/A
footprint 64902421022
pins: 1, 2, 3, 4, 5, 6, 7, 8, 9, 10, 11, 12, 13, 14, 15, 16, 17, 18, 19, 20, 21, 22, 23, 24

## 64902421122
designator P?  (value not drawn)
WR-MPC4 THT Male Vertical Header, pitch 4.2mm, 24p; Manufacturer: Wurth Elektronik; Contact Resistance: 10mΩ; Insulation Resistance: 1000MΩ; Rated Current: 6A; Working Voltage: 600VAC; ComponentLink1Description: Datasheet; ComponentLink1URL: https://www.we-online.com/redexpert/spec/64902421122?ad; Manufacturer Part Number: 64902421122; Match Code: WR-MPC4; Mount: THT; Operating Temperature Max: 105°C; Operating Temperature Min: -40°C; Packaging: Tray; Gender: Male; Number of Pins: 24; Number of Rows: 2; Orientation: Vertical; Pitch: 4.2mm; Supplier 1 URL: N/A; Supplier 2 URL: N/A; Supplier 3 URL: N/A; LCSC Part #: N/A; Package / Case: WR-MPC4; Supplier 1: Mouser; Supplier 1 Part Number: N/A; Supplier 2: Digi-Key; Supplier 2 Part Number: N/A; Supplier 3: thegioiic; Supplier 3 Part Number: N/A
footprint 64902421122
pins: 1, 2, 3, 4, 5, 6, 7, 8, 9, 10, 11, 12, 13, 14, 15, 16, 17, 18, 19, 20, 21, 22, 23, 24

## 64902429522
designator P?  (value not drawn)
WR-MPC4 THT Male Right Angled Header, pitch 4.2mm, 24p; Manufacturer: Wurth Elektronik; Contact Resistance: 10mΩ; Insulation Resistance: 1000MΩ; Rated Current: 7A; Working Voltage: 600VAC; ComponentLink1Description: Datasheet; ComponentLink1URL: https://www.we-online.com/redexpert/spec/64902429522?ad; Manufacturer Part Number: 64902429522; Match Code: WR-MPC4; Mount: THT; Operating Temperature Max: 105°C; Operating Temperature Min: -40°C; Packaging: Tray; Gender: Male; Number of Pins: 24; Number of Rows: 2; Orientation: Right Angled; Pitch: 4.2mm; Supplier 1 URL: N/A; Supplier 2 URL: N/A; Supplier 3 URL: N/A; LCSC Part #: N/A; Package / Case: WR-MPC4; Supplier 1: Mouser; Supplier 1 Part Number: N/A; Supplier 2: Digi-Key; Supplier 2 Part Number: N/A; Supplier 3: thegioiic; Supplier 3 Part Number: N/A
footprint 64902429522
pins: 1, 2, 3, 4, 5, 6, 7, 8, 9, 10, 11, 12, 13, 14, 15, 16, 17, 18, 19, 20, 21, 22, 23, 24

## 649002127222
designator P?  (value not drawn)
WR-MPC4 THT Male Right Angled Header with Mounting Pegs, pitch 4.2mm, 2p; Manufacturer: Wurth Elektronik; Contact Resistance: 10mΩ; Insulation Resistance: 1000MΩ; Rated Current: 9A; Working Voltage: 600VAC; ComponentLink1Description: Datasheet; ComponentLink1URL: https://www.we-online.com/redexpert/spec/649002127222?ad; Manufacturer Part Number: 649002127222; Match Code: WR-MPC4; Mount: THT; Operating Temperature Max: 105°C; Operating Temperature Min: -40°C; Packaging: Tray; Gender: Male; Number of Pins: 2; Number of Rows: 1; Orientation: Right Angled; Pitch: 4.2mm; Supplier 1 URL: N/A; Supplier 2 URL: N/A; Supplier 3 URL: N/A; LCSC Part #: N/A; Package / Case: WR-MPC4; Supplier 1: Mouser; Supplier 1 Part Number: N/A; Supplier 2: Digi-Key; Supplier 2 Part Number: N/A; Supplier 3: thegioiic; Supplier 3 Part Number: N/A
footprint 649002127222
pins: 1, 2

## 649002221732
designator P?  (value not drawn)
WR-MPC4 THT Male Vertical Header with Mounting Pegs, pitch 4.2mm, 2p; Manufacturer: Wurth Elektronik; Contact Resistance: 10mΩ; Insulation Resistance: 1000MΩ; Rated Current: 9A; Working Voltage: 600VAC; ComponentLink1Description: Datasheet; ComponentLink1URL: https://www.we-online.com/redexpert/spec/649002221732?ad; Manufacturer Part Number: 649002221732; Match Code: WR-MPC4; Mount: THT; Operating Temperature Max: 105°C; Operating Temperature Min: -40°C; Packaging: Tray; Gender: Male; Number of Pins: 2; Number of Rows: 2; Orientation: Vertical; Pitch: 4.2mm; Supplier 1 URL: N/A; Supplier 2 URL: N/A; Supplier 3 URL: N/A; LCSC Part #: N/A; Package / Case: WR-MPC4; Supplier 1: Mouser; Supplier 1 Part Number: N/A; Supplier 2: Digi-Key; Supplier 2 Part Number: N/A; Supplier 3: thegioiic; Supplier 3 Part Number: N/A
footprint 649002221732
pins: 1, 2

## 649002227222
designator P?  (value not drawn)
WR-MPC4 THT Male Right Angled Header with Mounting Pegs, pitch 4.2mm, 2p; Manufacturer: Wurth Elektronik; Contact Resistance: 10mΩ; Insulation Resistance: 1000MΩ; Rated Current: 9A; Working Voltage: 600VAC; ComponentLink1Description: Datasheet; ComponentLink1URL: https://www.we-online.com/redexpert/spec/649002227222?ad; Manufacturer Part Number: 649002227222; Match Code: WR-MPC4; Mount: THT; Operating Temperature Max: 105°C; Operating Temperature Min: -40°C; Packaging: Tray; Gender: Male; Number of Pins: 2; Number of Rows: 2; Orientation: Right Angled; Pitch: 4.2mm; Supplier 1 URL: N/A; Supplier 2 URL: N/A; Supplier 3 URL: N/A; LCSC Part #: N/A; Package / Case: WR-MPC4; Supplier 1: Mouser; Supplier 1 Part Number: N/A; Supplier 2: Digi-Key; Supplier 2 Part Number: N/A; Supplier 3: thegioiic; Supplier 3 Part Number: N/A
footprint 649002227222
pins: 1, 2

## 649003121732
designator P?  (value not drawn)
WR-MPC4 THT Male Vertical Header with Mounting Pegs, pitch 4.2mm, 3p; Manufacturer: Wurth Elektronik; Contact Resistance: 10mΩ; Insulation Resistance: 1000MΩ; Rated Current: 9A; Working Voltage: 600VAC; ComponentLink1Description: Datasheet; ComponentLink1URL: https://www.we-online.com/redexpert/spec/649003121732?ad; Manufacturer Part Number: 649003121732; Match Code: WR-MPC4; Mount: THT; Operating Temperature Max: 105°C; Operating Temperature Min: -40°C; Packaging: Tray; Gender: Male; Number of Pins: 3; Number of Rows: 1; Orientation: Vertical; Pitch: 4.2mm; Supplier 1 URL: N/A; Supplier 2 URL: N/A; Supplier 3 URL: N/A; LCSC Part #: N/A; Package / Case: WR-MPC4; Supplier 1: Mouser; Supplier 1 Part Number: N/A; Supplier 2: Digi-Key; Supplier 2 Part Number: N/A; Supplier 3: thegioiic; Supplier 3 Part Number: N/A
footprint 649003121732
pins: 1, 2, 3

## 649003127222
designator P?  (value not drawn)
WR-MPC4 THT Male Right Angled Header with Mounting Pegs, pitch 4.2mm, 3p; Manufacturer: Wurth Elektronik; Contact Resistance: 10mΩ; Insulation Resistance: 1000MΩ; Rated Current: 9A; Working Voltage: 600VAC; ComponentLink1Description: Datasheet; ComponentLink1URL: https://www.we-online.com/redexpert/spec/649003127222?ad; Manufacturer Part Number: 649003127222; Match Code: WR-MPC4; Mount: THT; Operating Temperature Max: 105°C; Operating Temperature Min: -40°C; Packaging: Tray; Gender: Male; Number of Pins: 3; Number of Rows: 1; Orientation: Right Angled; Pitch: 4.2mm; Supplier 1 URL: N/A; Supplier 2 URL: N/A; Supplier 3 URL: N/A; LCSC Part #: N/A; Package / Case: WR-MPC4; Supplier 1: Mouser; Supplier 1 Part Number: N/A; Supplier 2: Digi-Key; Supplier 2 Part Number: N/A; Supplier 3: thegioiic; Supplier 3 Part Number: N/A
footprint 649003127222
pins: 1, 2, 3